# EAGLE library part STSPIN32F0_BLDC-MOTOR-CONTROLLER (library Tristan_Robitaille's_Library)
Advanced BLDC controller with embedded STM32 MCU Technical specifications: Operating voltage range : 8V to 45V Three phase gate drivers with 600 mA sink/source capability SRAM : 4 KB Flash: 32 KB I2C, USART and SPI comm. interfaces Datasheet <http://www.st.com/content/ccc/resource/technical/document/datasheet/group3/4a/93/f4/8d/fb/ac/4b/18/DM00330483/files/DM00330483.pdf/jcr:content/translations/en.DM00330483.pdf> Digi-Key part #: 497-16978-ND <https://www.digikey.ca/product-detail/en/stmicroelectronics/STSPIN32F0/497-16978-ND/6236758> Mouser part #: 511-STSPIN32F0 <http://ca.mouser.com/ProductDetail/STMicroelectronics/STSPIN32F0/?qs=sGAEpiMZZMuWWq7rhECaKVToSvQBOY7AR6O3NgjrE%2f8%3d> Manufacturer part #: STSPIN32F0
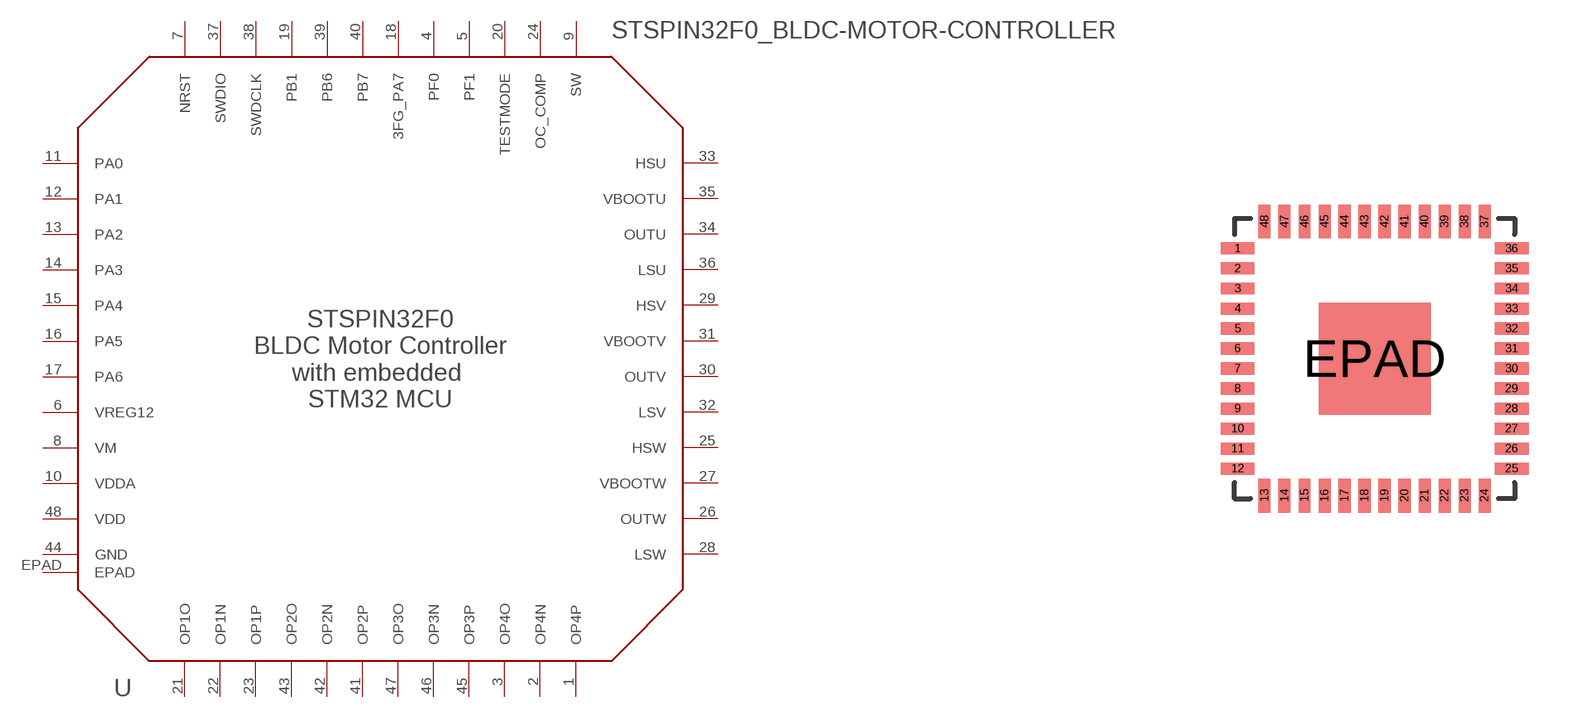
[diagram p30: symbol with the pads of VFQFPN-48; footprint VFQFPN-48]

Designator prefix U

## STSPIN32F0_BLDC-MOTOR-CONTROLLER (DIGIKEY#: 497-16978-ND; MANF: Advanced BLDC controller with embedded STM32 MCU; MANF#: STSPIN32F0; MOUSER#: 511-STSPIN32F0)  [VFQFPN-48]
1  OP4P  in
2  OP4N  in
3  OP4O  out
4  PF0
5  PF1
6  VREG12  pwr
7  NRST
8  VM  pwr
9  SW  out
10  VDDA  pwr
11  PA0
12  PA1
13  PA2
14  PA3
15  PA4
16  PA5
17  PA6
18  3FG_PA7
19  PB1
20  TESTMODE  in
21  OP1O  out
22  OP1N  in
23  OP1P  in
24  OC_COMP  in
25  HSW  out
26  OUTW  pwr
27  VBOOTW  pwr
28  LSW  out
29  HSV  out
30  OUTV  pwr
31  VBOOTV  pwr
32  LSV  out
33  HSU  out
34  OUTU  pwr
35  VBOOTU  pwr
36  LSU  out
37  SWDIO
38  SWDCLK
39  PB6
40  PB7
41  OP2P  in
42  OP2N  in
43  OP2O  out
44  GND  pwr
45  OP3P  in
46  OP3N  in
47  OP3O  out
48  VDD  pwr
EPAD  EPAD  pwr

## Footprint VFQFPN-48 (pad centres in mm)
smd 0.85 x 0.3: 1 -3.425,2.75; 2 -3.425,2.25; 3 -3.425,1.75; 4 -3.425,1.25; 5 -3.425,0.75; 6 -3.425,0.25; 7 -3.425,-0.25; 8 -3.425,-0.75; 9 -3.425,-1.25; 10 -3.425,-1.75; 11 -3.425,-2.25; 12 -3.425,-2.75; 25 3.425,-2.75; 26 3.425,-2.25; 27 3.425,-1.75; 28 3.425,-1.25; 29 3.425,-0.75; 30 3.425,-0.25; 31 3.425,0.25; 32 3.425,0.75; 33 3.425,1.25; 34 3.425,1.75; 35 3.425,2.25; 36 3.425,2.75
smd 0.3 x 0.85: 13 -2.75,-3.425; 14 -2.25,-3.425; 15 -1.75,-3.425; 16 -1.25,-3.425; 17 -0.75,-3.425; 18 -0.25,-3.425; 19 0.25,-3.425; 20 0.75,-3.425; 21 1.25,-3.425; 22 1.75,-3.425; 23 2.25,-3.425; 24 2.75,-3.425; 37 2.75,3.425; 38 2.25,3.425; 39 1.75,3.425; 40 1.25,3.425; 41 0.75,3.425; 42 0.25,3.425; 43 -0.25,3.425; 44 -0.75,3.425; 45 -1.25,3.425; 46 -1.75,3.425; 47 -2.25,3.425; 48 -2.75,3.425
smd 2.8 x 2.8: EPAD 0,0